# EAGLE library part D-SUB9/C-00645/AKIZUKI (library 180118 Library by matsu)
D-SUB9 C-00645 AKIZUKI http://akizukidenshi.com/download/ds/kakusya/DMR-09SGG.pdf
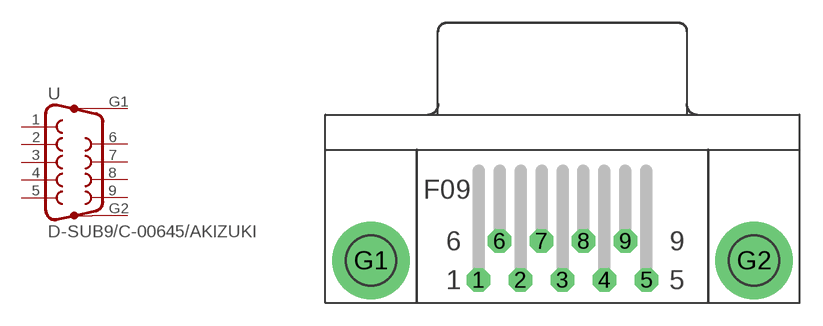
[diagram p14: symbol with the pads of D-SUB9/C-00645/AKIZUKI; footprint D-SUB9/C-00645/AKIZUKI]

Designator prefix -

## D-SUB9/C-00645/AKIZUKI  [D-SUB9/C-00645/AKIZUKI]
1  1  pas
2  2  pas
3  3  pas
4  4  pas
5  5  pas
6  6  pas
7  7  pas
8  8  pas
9  9  pas
G1  G1  pas
G2  G2  pas

## Footprint D-SUB9/C-00645/AKIZUKI (pad centres in mm)
D-SUB9 C-00645 AKIZUKI http://akizukidenshi.com/download/ds/kakusya/DMR-09SGG.pdf
drill 1.016 octagon: 1 -5.486,0; 2 -2.743,0; 3 0,0; 4 2.743,0; 5 5.486,0; 6 -4.115,2.54; 7 -1.372,2.54; 8 1.372,2.54; 9 4.115,2.54
drill 3.302 pad 5.08: G1 -12.522,1.27; G2 12.522,1.27